# Altium integrated library piher.IntLib: 7 symbols
Pins are listed as number, name and electrical type; pins without a type are passive.

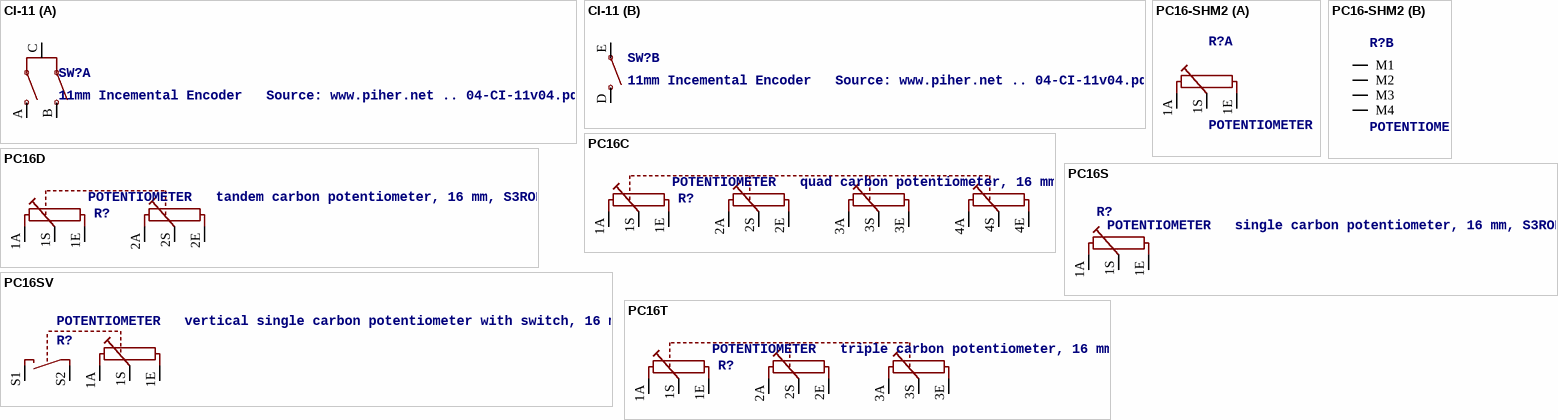
[diagram p0: symbols CI-11 to PC16T]

## CI-11
designator SW?, comment 11mm Incemental Encoder   Source: www.piher.net .. 04-CI-11v04.pdf
OC_FARNELL: unknown; OC_NEWARK: unknown
footprint CI-11
part A pins: A, B, C
part B pins: D, E

## PC16-SHM2
designator R?, comment POTENTIOMETER   single carbon potentiometer, 16 mm, S3ROH
OC_FARNELL: unknown; OC_NEWARK: unknown
footprint PC16-SHM2
part A pins: 1A, 1E, 1S
part B pins: M1, M2, M3, M4

## PC16C
designator R?, comment POTENTIOMETER   quad carbon potentiometer, 16 mm
OC_FARNELL: 3605360; OC_NEWARK: unknown
footprint PC16C
pins: 1A, 1E, 1S, 2A, 2E, 2S, 3A, 3E, 3S, 4A, 4E, 4S

## PC16D
designator R?, comment POTENTIOMETER   tandem carbon potentiometer, 16 mm, S3ROH
OC_FARNELL: 4453049; OC_NEWARK: unknown
footprint PC16D
pins: 1A, 1E, 1S, 2A, 2E, 2S

## PC16S
designator R?, comment POTENTIOMETER   single carbon potentiometer, 16 mm, S3ROH
OC_FARNELL: 4452940; OC_NEWARK: unknown
footprint PC16S
pins: 1A, 1E, 1S

## PC16SV
designator R?, comment POTENTIOMETER   vertical single carbon potentiometer with switch, 16 mm
OC_FARNELL: unknown; OC_NEWARK: unknown
footprint PC16SV
pins: 1A, 1E, 1S, S1, S2

## PC16T
designator R?, comment POTENTIOMETER   triple carbon potentiometer, 16 mm
OC_FARNELL: unknown; OC_NEWARK: unknown
footprint PC16T
pins: 1A, 1E, 1S, 2A, 2E, 2S, 3A, 3E, 3S